# Altium schematic symbol library HDR_3POS.SchLib: 1 symbol
Pins are listed as number, name and electrical type; pins without a type are passive.

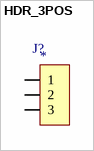
[diagram p0: symbol HDR_3POS]

## HDR_3POS
designator J?
Manufacturer Part Number: *
pins: 1, 2, 3